# EAGLE library part SD103ATW-7-F-1 (library graftel-internal-ic)
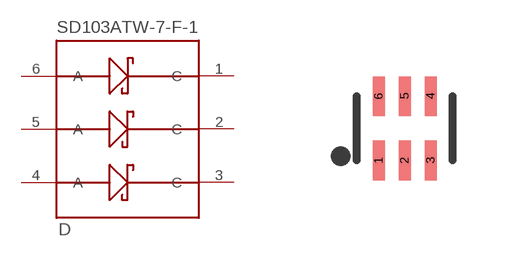
[diagram p24: symbol with the pads of SOT363; footprint SOT363]

Designator prefix D

## SD103ATW-7-F-1  [SOT363]
1  C
2  C
3  C
4  A
5  A
6  A

## Footprint SOT363 (pad centres in mm)
smd 0.3 x 0.99: 1 -0.65,-0.8; 2 0,-0.8; 3 0.65,-0.8; 4 0.65,0.81; 5 0,0.81; 6 -0.65,0.81